# EAGLE library part LT3434 (library paparazzi3)
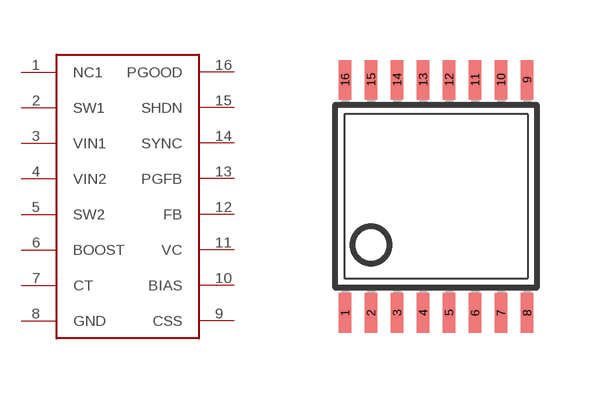
[diagram p40: symbol with the pads of TSSOP16; footprint TSSOP16]

Designator prefix -

## LT3434  [TSSOP16]
1  NC1
2  SW1
3  VIN1
4  VIN2
5  SW2
6  BOOST
7  CT
8  GND
9  CSS
10  BIAS
11  VC
12  FB
13  PGFB
14  SYNC
15  SHDN
16  PGOOD

## Footprint TSSOP16 (pad centres in mm)
Thin Shrink Small Outline Plastic 16 MAX3223-MAX3243.pdf
smd 0.305 x 0.991: 1 -2.275,-2.918; 2 -1.625,-2.918; 3 -0.975,-2.918; 4 -0.325,-2.918; 5 0.325,-2.918; 6 0.975,-2.918; 7 1.625,-2.918; 8 2.275,-2.918; 9 2.275,2.918; 10 1.625,2.918; 11 0.975,2.918; 12 0.325,2.918; 13 -0.325,2.918; 14 -0.975,2.918; 15 -1.625,2.918; 16 -2.275,2.918